# Altium footprint library DAPLink.PcbLib: 6 footprints
Each footprint in its own frame and in the unit in brackets; x right, y up, seen from the top. Pads: shape width x height; smd on the part's side, far side on the other; paste and mask are expansions set on the pad; w line width, h text height; cw(c..) or ccw(c..) is an arc to the next point about the centre after c.
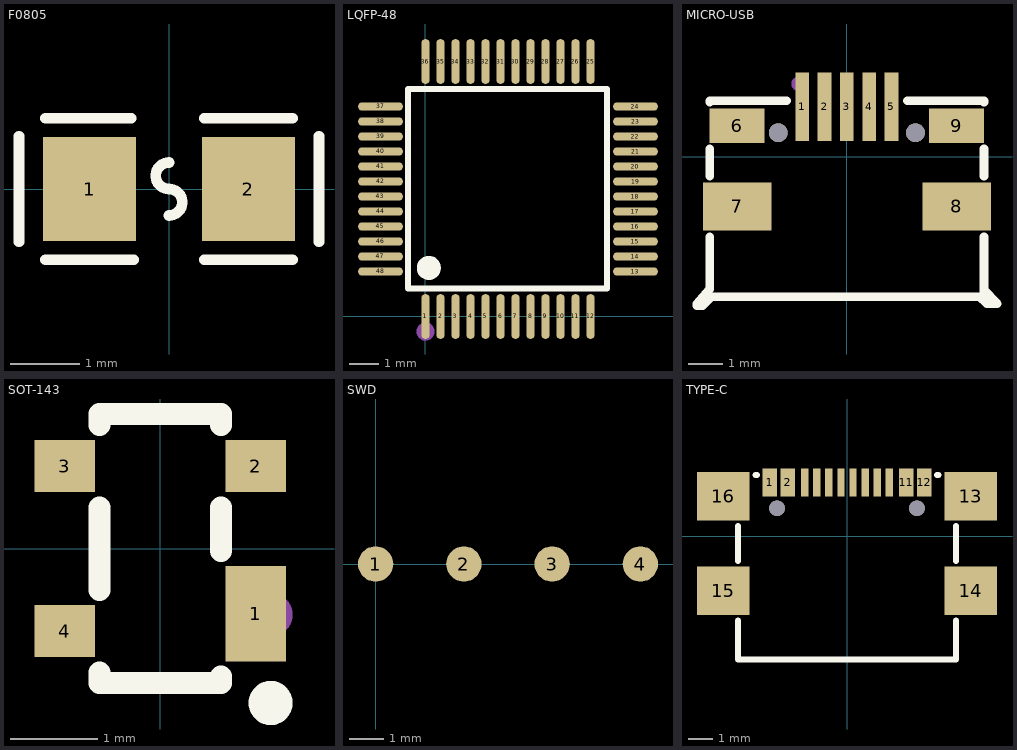
[diagram p0: the footprints below, top view; thin cyan lines are the x and y axes]

## F0805 [mm]
pads (2):
  rect 1.335x1.5 smd: 1(-1.142,0) 2(1.142,0)
Top Overlay:
  lines w0.152: -2.159,-0.762 -2.159,0.762 ; -1.778,-1.016 -0.508,-1.016 ; -1.778,1.016 -0.545,1.016 ; 0,-0.381 ccw(c0,-0.191) 0,0 cw(c0,0.191) 0,0.381 ; 0.508,-1.016 1.778,-1.016 ; 0.508,1.016 1.778,1.016 ; 2.159,-0.762 2.159,0.762
Top Paste:
  region: 0.475,-0.62 0.475,-0.2 0.92,-0.2 0.92,0.25 0.48,0.25 0.475,0.66 0.525,0.71 1.675,0.71 1.725,0.66 1.725,-0.62 1.675,-0.67 0.525,-0.67
  region: -1.675,-0.62 -1.675,0.66 -1.625,0.71 -0.475,0.71 -0.425,0.66 -0.42,0.25 -0.87,0.25 -0.87,-0.2 -0.43,-0.2 -0.425,-0.62 -0.475,-0.67 -1.625,-0.67
3D body "mf-psmf075x-2.stp": height 1, standoff 0, extent -1.075,-0.675 1.075,0.675

## LQFP-48 [mm]
pads (48):
  oval 0.27x1.5 smd: 1(0,0) 2(0.5,0) 3(1,0) 4(1.5,0) 5(2,0) 6(2.5,0) 7(3,0) 8(3.5,0) 9(4,0) 10(4.5,0) 11(5,0) 12(5.5,0) 25(5.5,8.5) 26(5,8.5) 27(4.5,8.5) 28(4,8.5) 29(3.5,8.5) 30(3,8.5) 31(2.5,8.5) 32(2,8.5) 33(1.5,8.5) 34(1,8.5) 35(0.5,8.5) 36(0,8.5)
  oval 1.5x0.27 smd: 13(7,1.5) 14(7,2) 15(7,2.5) 16(7,3) 17(7,3.5) 18(7,4) 19(7,4.5) 20(7,5) 21(7,5.5) 22(7,6) 23(7,6.5) 24(7,7) 37(-1.5,7) 38(-1.5,6.5) 39(-1.5,6) 40(-1.5,5.5) 41(-1.5,5) 42(-1.5,4.5) 43(-1.5,4) 44(-1.5,3.5) 45(-1.5,3) 46(-1.5,2.5) 47(-1.5,2) 48(-1.5,1.5)
Top Overlay:
  lines w0.2: -0.145,7.59 6.052,7.59 6.052,0.935 -0.577,0.935 -0.577,7.59 0.185,7.59
  lines w0.4: 0.109,1.82 ccw(c0.11,1.62) 0.111,1.82
Mechanical 15:
  circle w0.3: c0,-0.5 r0.15
3D body "User Library-STM32F103C8T6.step": height 1.4, standoff -0.15, extent -1.706,-0.182 7.294,8.818

## MICRO-USB [mm]
pads (11):
  rect 0.4x2 smd: 1(-1.3,1.452) 2(-0.65,1.452) 3(0,1.452) 4(0.65,1.452) 5(1.3,1.452)
  rect 1.6x1 smd: 6(-3.2,0.902) 9(3.2,0.902)
  rect 2x1.4 smd: 7(-3.2,-1.452) 8(3.2,-1.452)
  round 0.55 hole 0.55 unplated: ""(-2,0.698) ""(2,0.698)
Top Overlay:
  lines w0.254: -4.011,-3.869 -4.369,-4.288 -4.369,-4.339 -4.204,-4.339 -3.946,-4.081 3.878,-4.081 4.084,-4.288 4.376,-4.288 3.99,-3.869 ; -4,-3.869 -4,-2.398 -4,-2.333 ; -4,-0.571 -4,0.221 ; -4,1.583 -4,1.633 -1.758,1.633 ; 1.758,1.633 4,1.633 4,1.583 ; 4,-3.991 4,-2.398 4,-2.333 ; 4,-0.571 4,0.221
Mechanical 15:
  circle w0.2: c-1.421,2.122 r0.1
3D body "85067.stp": height 2.73, standoff -0.75, extent -4.046,-4.001 4.047,1.799

## SOT-143 [mm]
pads (4):
  rect 0.7x1.1 smd: 1(1.1,-0.75)
  rect 0.7x0.6 smd: 2(1.1,0.95) 3(-1.1,0.95) 4(-1.1,-0.95)
Top Overlay:
  circle w0.254: c1.27,-1.778 r0.127
  lines w0.254: -0.7,-1.425 -0.7,-1.55 0.7,-1.55 0.7,-1.475 ; -0.7,-0.475 -0.7,0.475 ; -0.7,1.425 -0.7,1.55 0.7,1.55 0.7,1.425 ; 0.7,-0.025 0.7,0.475
Mechanical 15:
  circle w0.254: c1.27,-0.762 r0.127
3D body "User Library-SOT143-1.step": height 1.22, standoff 0, extent -1.182,-1.45 1.182,1.45

## SWD [mil]
pads (4):
  rrect100% 40x40 smd: 1(0,0) 2(100,0) 3(200,0) 4(300,0)

## TYPE-C [mm]
pads (18):
  rect 0.6x1.15 smd: 1(-3.2,2.237) 2(-2.45,2.237) 11(2.45,2.237) 12(3.2,2.237)
  rect 0.3x1.15 smd: 3(-1.749,2.237) 4(-1.249,2.237) 5(-0.751,2.237) 6(-0.251,2.237) 7(0.25,2.237) 8(0.75,2.237) 9(1.25,2.237) 10(1.75,2.237)
  rect 2.18x2 smd: 13(5.11,1.662) 14(5.11,-2.237) 15(-5.11,-2.237) 16(-5.11,1.662)
  round 0.65 hole 0.65 unplated: ""(-2.89,1.163) ""(2.89,1.163)
Top Overlay:
  lines w0.254: -4.5,-3.469 -4.5,-5.087 4.5,-5.087 4.5,-3.469 ; -4.5,-1.006 -4.5,0.431 ; -3.789,2.54 -3.731,2.54 ; 3.731,2.54 3.789,2.54 ; 4.5,-1.006 4.5,0.431
3D body "User Library-USB - C.step": height 3.57, standoff -0.69, extent -4.475,-5.08 4.475,2.67